# Altium integrated library RPI_POE_ADC_SHIELD.IntLib: 56 symbols
Pins are listed as number, name and electrical type; pins without a type are passive.

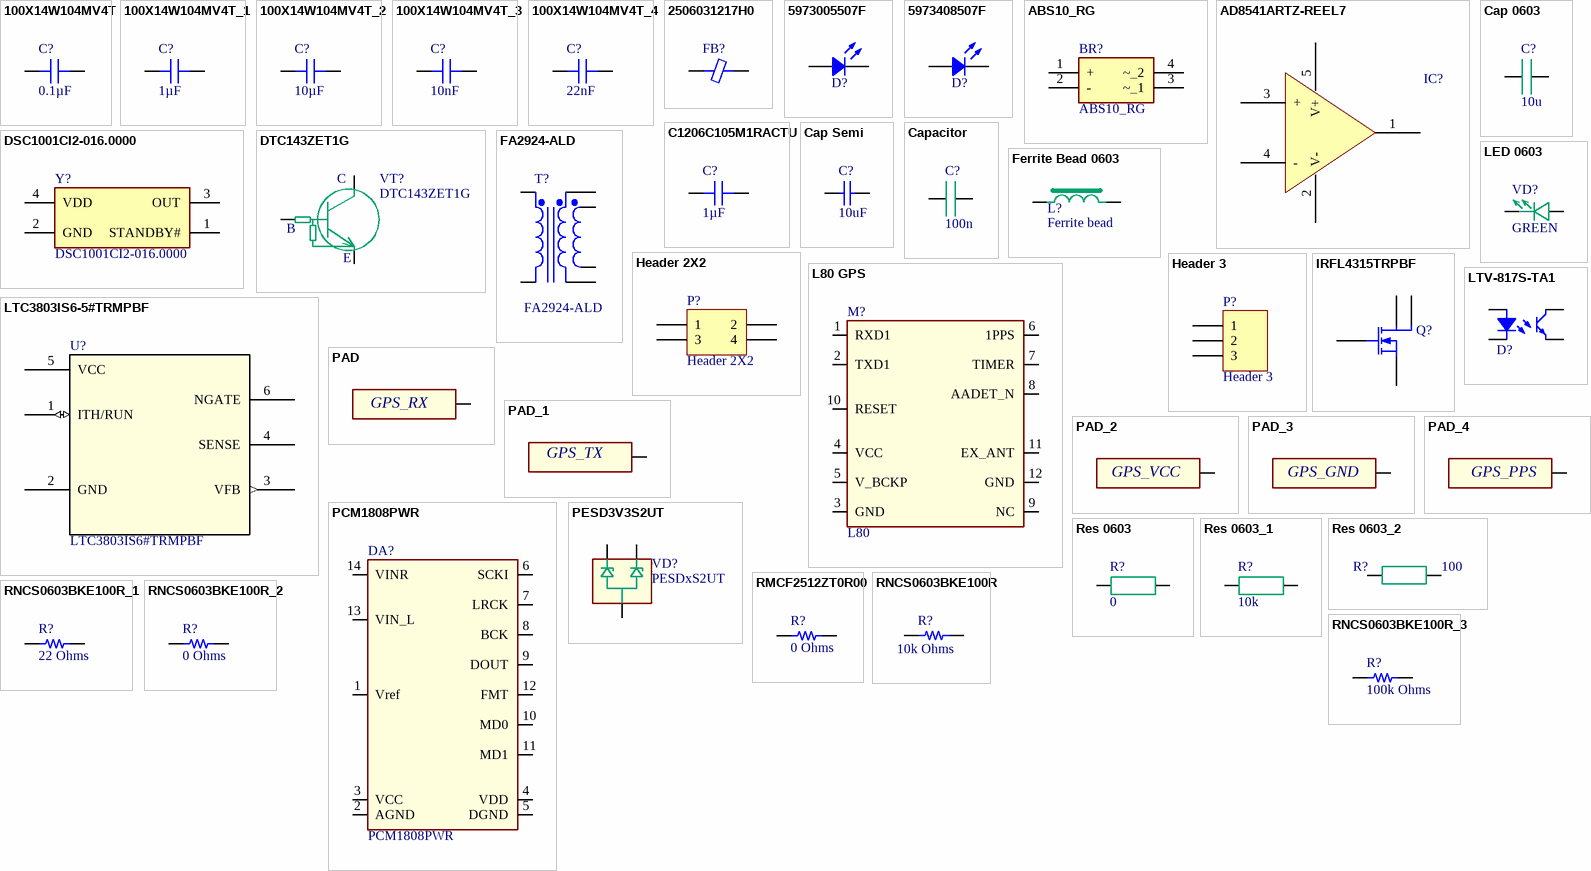
[diagram p0: symbols 100X14W104MV4T to RNCS0603BKE100R_3]

## 100X14W104MV4T
designator C?, comment 0.1µF
CAP CER 0.1UF 10V X7R 0603; Part Number: 100X14W104MV4T; Value: 0.1µF
footprint CAP 0603_1608
pins: 1, 2

## 100X14W104MV4T_1
designator C?, comment 1µF
CAP CER 0.1UF 10V X7R 0603; Part Number: 100X14W104MV4T; Value: 1µF
footprint CAP 0603_1608
pins: 1, 2

## 100X14W104MV4T_2
designator C?, comment 10µF
CAP CER 0.1UF 10V X7R 0603; Part Number: 100X14W104MV4T; Value: 10µF
footprint CAP 0603_1608
pins: 1, 2

## 100X14W104MV4T_3
designator C?, comment 10nF
CAP CER 0.1UF 10V X7R 0603; Part Number: 100X14W104MV4T; Value: 10nF
footprint CAP 0603_1608
pins: 1, 2

## 100X14W104MV4T_4
designator C?, comment 22nF
CAP CER 0.1UF 10V X7R 0603; Part Number: 100X14W104MV4T; Value: 22nF
footprint CAP 0603_1608
pins: 1, 2

## 2506031217H0
designator FB?
FERRITE BEAD 0603 1LN; Part Number: 2506031217H0
footprint FER 0603_1608
pins: 1, 2

## 5973005507F
designator D?
LED RED 0603 SMD; Part Number: 5973005507F
footprint LED 0603_1608 RED
pins: 1, 2

## 5973408507F
designator D?
LED YELLOW 0603 SMD; Part Number: 5973408507F
footprint LED 0603_1608 YELLOW
pins: 1, 2

## ABS10_RG
designator BR?
Bridge Rectifier; Manufacturer_Name: Taiwan Semiconductor; Manufacturer_Part_Number: ABS10 RG; Datasheet Link: http://210.6.198.34/ich_flag/www.taiwansemi.com/products/datasheet/ABS2 SERIES_L15.pdf; Height: 1.6mm; Arrow Part Number: ABS10 RG; Arrow Price/Stock: https://www.arrow.com/en/products/abs10rg/taiwan-semiconductor
footprint SOP400P645X160-4N
pins: 1 +, 2 -, 3 ~_1, 4 ~_2

## AD8541ARTZ-REEL7
designator IC?  (value not drawn)
IC OPAMP GP 1 CIRCUIT SOT23-5; Manufacturer: Analog Devices Inc.; Amplifier Type: General Purpose; Current - Input Bias: 4pA; Current - Output / Channel: 30mA; Current - Supply: 45µA; Gain Bandwidth Product: 1MHz; Number of Circuits: 1; Output Type: Rail-to-Rail; Slew Rate: 0.92V/µs; Voltage - Input Offset: 1mV; Voltage - Supply, Single/Dual (±): 2.7V ~ 5.5V; Part Number: AD8541ARTZ-REEL7; ComponentLink1Description: Datasheet; ComponentLink1URL: https://www.analog.com/media/en/technical-documentation/data-sheets/AD8541_8542_8544.pdf; ComponentLink2Description: DigiKey Link; ComponentLink2URL: http://digikey.com/product-detail/en/analog-devices-inc/AD8541ARTZ-REEL7/AD8541ARTZ-REEL7CT-ND/813416; Device Package: SC-74A, SOT-753; LastUpdated: 08.01.2020 23:39:15; Lifecycle Status: Active; Minimum Order: 1; Mounting Type: Surface Mount; Operating Temperature: -40°C ~ 125°C; Package / Case: SC-74A, SOT-753; Packaging: ReReel; PartId: 9; Part Status: Active; Price: 0.00; Series: -; Supplier 1: DigiKey; Supplier Part Number 1: AD8541ARTZ-REEL7CT-ND; Supplier Device Package: SOT-23-5
footprint ANALOG SOT-23-5 RJ-5
pins: 1 OUT, 2 V-, 3 +, 4 -, 5 V+

## C1206C105M1RACTU
designator C?, comment 1µF
CAP CER 1UF 100V X7R 1206; Part Number: C1206C105M1RACTU; Manufacturer: KEMET; Tolerance: ±20%; Value: 1µF; Applications: Bypass, Decoupling; Capacitance: 1µF; ComponentLink1Description: Datasheet; ComponentLink1URL: https://api.kemet.com/component-edge/download/datasheet/C1206C105M1RACTU.pdf; ComponentLink2Description: DigiKey Link; ComponentLink2URL: http://digikey.com/product-detail/en/kemet/C1206C105M1RACTU/399-11684-1-ND/5119827; Device Package: 1206 (3216 Metric); LastUpdated: 02/09/2020 01:05:39; Lifecycle Status: Active; Minimum Order: 1; Mounting Type: Surface Mount, MLCC; Operating Temperature: -55°C ~ 125°C; Package / Case: 1206 (3216 Metric); Packaging: TapeAndReel; PartId: 20380; Part Status: Active; Price: 0.13; Series: SMD Comm X7R; Size / Dimension: 0.126" L x 0.063" W (3.20mm x 1.60mm); Supplier 1: DigiKey; Supplier Part Number 1: 399-11684-1-ND; Temperature Coefficient: X7R; Thickness (Max): 0.071" (1.80mm); Voltage - Rated: 100V
footprint CAP 1206_3216 - 1.8MM
pins: 1, 2

## Cap 0603
designator C?, comment 10u
Ceramic capacitor, SMD; Manufacturer: Samsung; Manufacturer P/N: CL10B___K_; Tolerance: ±10%; Корпус: 0603; Комментарий: Конденсатор керамический, SMD; ID: Cap 0603; Type: Capacitor; Temperature: -55…+125; HelpURL: pdf/passive/samsung-chip-cap.pdf
footprint CAP 0603
pins: 1, 2

## Cap Semi
designator C?  value 10uF  (hidden comment: Cap Semi)
Capacitor (Semiconductor SIM Model); Published: 8-Jun-2000; LatestRevisionDate: 29-May-2009; LatestRevisionNote: IPC-7351 Footprint Added.; PackageReference: C1206; Publisher: Altium Limited; PackageDescription: Chip Capacitor
footprint C1206 (Chip Capacitor, Body 3.2x1.6mm, IPC High Density)
footprint 0402 (Chip Capacitor, Body 1.0x0.5mm, IPC High Density)
footprint C2512 (Chip Capacitor, Body 2.54x1.27mm, IPC High Density)
footprint 1608[0603] (Chip Capacitor, Body 1.6x0.8mm, IPC High Density)
footprint C1210 (Chip Capacitor, Body 3.2x2.5mm, IPC High Density)
simulation model CAP (Semiconductor Capacitor)
signal-integrity model Cap Semi
pins: 1, 2

## Capacitor
designator C?, comment 100n
Ceramic capacitor, SMD; Manufacturer: Samsung; Manufacturer P/N: CL10B___K_; Tolerance: ±10%; Корпус: 0603; Комментарий: Конденсатор керамический, SMD; ID: Cap 0603; Type: Capacitor; Temperature: -55…+125; HelpURL: pdf/passive/samsung-chip-cap.pdf
footprint CAP 0603
pins: 1, 2

## DSC1001CI2-016.0000
designator Y?
Crystal or Oscillator; Manufacturer_Name: Microchip; Datasheet Link: https://ww1.microchip.com/downloads/en/DeviceDoc/20005529B.pdf; Height: 0.9mm; Manufacturer_Part_Number: DSC1001CI2-016.0000
footprint DSC1001CI20160000
pins: 1 STANDBY#, 2 GND, 3 OUT, 4 VDD

## DTC143ZET1G
designator VT?
Transistor bipolar, NPN, pre-biased; Manufacturer: ON Semiconductor; Voltage: 50V; Current: 0.1A; Корпус: SC-75; Комментарий: Биполярный транзистор, NPN, pre-biased; ID: DTC143ZET1G; Type: NPN; Voltage max: 50V; Manufacturer P/N: DTC143ZET1G; Temperature: -55…+150; Digikey p/n: DTC143ZET1GOSCT-ND
footprint SC-75
pins: 1, 2, 3
text: C; B; E

## FA2924-ALD
designator T?
Transformer; Manufacturer_Name: COILCRAFT; Datasheet Link: https://www.coilcraft.com/pdfs/fa2805.pdf; Height: 12.7mm; Manufacturer_Part_Number: FA2924-ALD; Mouser Part Number: 994-FA2924-ALD; Mouser Price/Stock: https://www.mouser.co.uk/ProductDetail/Coilcraft/FA2924-ALD/?qs=ZYnrCdKdyefew%252BIVULR6AA%3D%3D
footprint FA2924ALD
pins: 1 Pri+, 2 Pri-, 7 Sec+, 8 Sec+, 9 Sec-, 10 Sec-

## Ferrite Bead 0603
designator L?, comment Ferrite bead
Ferrite bead, SMD; Manufacturer: Epcos; ID: Ferrite Bead 0603; Tolerance: 5%; Корпус: 0603; Комментарий: Феррит фильтрующий, SMD; Type: Ferrite Bead; Temperature: -55…+150; HelpURL: pdf/passive/QNFA9129.pdf
footprint BEAD 0603
pins: 1, 2

## Header 2X2
designator P?
Header, 2-Pin, Dual row; LatestRevisionDate: 17-Jul-2002; LatestRevisionNote: Re-released for DXP Platform.; Publisher: Altium Limited
footprint HDR2X2 (Connector; Header; 2x2 Position)
signal-integrity model Connector
pins: 1, 2, 3, 4

## Header 3
designator P?
Header, 3-Pin; LatestRevisionDate: 17-Jul-2002; LatestRevisionNote: Re-released for DXP Platform.; Publisher: Altium Limited
footprint HDR1X3 (Connector; Header; 3 Position)
signal-integrity model Connector
pins: 1, 2, 3

## IRFL4315TRPBF
designator Q?  (value not drawn)
MOSFET (N-Channel); Manufacturer_Name: Infineon; Datasheet Link: https://www.infineon.com/dgdl/irfl4315pbf.pdf?fileId=5546d462533600a4015356280dbc1fbe; Height: 1.8mm; Manufacturer_Part_Number: IRFL4315TRPBF; Mouser Part Number: 942-IRFL4315TRPBF; Mouser Price/Stock: https://www.mouser.co.uk/ProductDetail/Infineon-IR/IRFL4315TRPBF/?qs=9%252BKlkBgLFf2fNmu5vkaiHg%3D%3D; Arrow Part Number: IRFL4315TRPBF; Arrow Price/Stock: https://www.arrow.com/en/products/irfl4315trpbf/infineon-technologies-ag
footprint SOT230P700X180-4N
pins: 1 G, 2 D, 3 S, 4 D_2

## L80 GPS
designator M?, comment L80
GPS module; Manufacturer: Quectel; Manufacturer P/N: L80-M39; ID: L80 GPS; Current: 0.025A; Voltage IN max: 4.3V; Корпус: 12-SMD Module; Комментарий: GPS модуль; Voltage IN min: 3V; Type: GPS module; Temperature: -40…+85
footprint L80 GPS
pins: 1 RXD1, 2 TXD1, 3 GND, 4 VCC, 5 V_BCKP, 6 1PPS, 7 TIMER, 8 AADET_N, 9 NC, 10 RESET, 11 EX_ANT, 12 GND

## LED 0603
designator VD?, comment GREEN
LED, SMD; Корпус: 0603; Комментарий: Светодиод, SMD; ID: LED 0603
footprint LED 0603
footprint LED 0603 reverse
pins: 1, 2

## LTC3803IS6-5#TRMPBF
designator U?, comment LTC3803IS6#TRMPBF
No Description Available; Manufacturer_Part_Number: LTC3803IS6-5#TRMPBF; Vendor: Linear Technology; Built_By: EMA_UL_Team; SourceLibrary: LinearTech_2016-05-13_6; Copyright: Copyright (C) 2018 Accelerated Designs. All rights reserved; RefDes: RefDes; Type: DEV
footprint SOT95P280X100-6N
pins: 1 ITH/RUN (io), 2 GND (power), 3 VFB (out), 4 SENSE, 5 VCC (power), 6 NGATE

## LTV-817S-TA1
designator D?  (value not drawn)
OPTOISOLATR 5KV TRANSISTOR 4-SMD; Manufacturer: Lite-On Inc.; Current - DC Forward (If) (Max): 50mA; Current Transfer Ratio (Max): 600% @ 5mA; Current Transfer Ratio (Min): 50% @ 5mA; Input Type: DC; Number of Channels: 1; Rise / Fall Time (Typ): 4µs, 3µs; Vce Saturation (Max): 200mV; Voltage - Forward (Vf) (Typ): 1.2V; Voltage - Isolation: 5000Vrms; Voltage - Output (Max): 35V; Part Number: LTV-817S-TA1; ComponentLink1Description: Datasheet; ComponentLink1URL: http://optoelectronics.liteon.com/upload/download/DS-70-96-0016/LTV-8X7%20series%20201610%20.pdf; ComponentLink2Description: DigiKey Link; ComponentLink2URL: http://digikey.com/product-detail/en/lite-on-inc/LTV-817S-TA1/160-1893-1-ND/3306757; Current - Output / Channel: 50mA; Device Package: 4-SMD, Gull Wing; LastUpdated: 12/01/2020 21:58:48; Lifecycle Status: Active; Minimum Order: 1; Mounting Type: Surface Mount; Operating Temperature: -30°C ~ 110°C; Output Type: Transistor; Package / Case: 4-SMD, Gull Wing; Packaging: TapeAndReel; Part Status: Active; Price: 0.12; Series: -; Supplier 1: DigiKey; Supplier Part Number 1: 160-1893-1-ND; Supplier Device Package: 4-SMD
footprint LITEON LTV-817
pins: 1, 2, 3, 4

## PAD
designator X?, comment GPS_RX  (no BOM)
Soldering pad; Manufacturer: KHADB; Комментарий: Контактная площадка; Name: GPS_RX; ID: PAD; Pins: 1
footprint PAD 3x4mm
footprint PAD 1x2mm
pins: 1

## PAD_1
designator X?, comment GPS_TX  (no BOM)
Soldering pad; Manufacturer: KHADB; Комментарий: Контактная площадка; Name: GPS_TX; ID: PAD; Pins: 1
footprint PAD 3x4mm
footprint PAD 1x2mm
pins: 1

## PAD_2
designator X?, comment GPS_VCC  (no BOM)
Soldering pad; Manufacturer: KHADB; Комментарий: Контактная площадка; Name: GPS_VCC; ID: PAD; Pins: 1
footprint PAD 3x4mm
footprint PAD 1x2mm
pins: 1

## PAD_3
designator X?, comment GPS_GND  (no BOM)
Soldering pad; Manufacturer: KHADB; Комментарий: Контактная площадка; Name: GPS_GND; ID: PAD; Pins: 1
footprint PAD 3x4mm
footprint PAD 1x2mm
pins: 1

## PAD_4
designator X?, comment GPS_PPS  (no BOM)
Soldering pad; Manufacturer: KHADB; Комментарий: Контактная площадка; Name: GPS_PPS; ID: PAD; Pins: 1
footprint PAD 3x4mm
footprint PAD 1x2mm
pins: 1

## PCM1808PWR
designator DA?
Audio ADC, 24 bit, 192 kHz; Manufacturer: Texas Instruments; Vcc min: 3.3V; Vcc max: 5V; Корпус: TSSOP 14; Комментарий: АЦП, аудио назначения, 24 bit, 192 kHz; ID: PCM1808PWR; Type: ADC, audio; Temperature: -40…+85; Manufacturer P/N: PCM1808PWR; Digikey p/n: 296-26307-1-ND
footprint TSSOP 14
pins: 1 Vref, 2 AGND, 3 VCC, 4 VDD, 5 DGND, 6 SCKI, 7 LRCK, 8 BCK, 9 DOUT, 10 MD0, 11 MD1, 12 FMT, 13 VIN_L, 14 VINR

## PESD3V3S2UT
designator VD?, comment PESDxS2UT
TVS diode, SMD; Manufacturer: NXP; Manufacturer P/N: PESD3V3S2UT,215; ID: PESD3V3S2UT; Type: Supressor; Voltage: 3.3V; Корпус: SOT-23; Комментарий: Супрессор, SMD; Voltage max: 3.3V; Temperature: -65…+150; HelpURL: pdf/discrete/PESDXS2UT_SERIES.pdf; Digikey p/n: 1727-3831-1-ND
footprint sot-23
pins: 1, 2, 3

## Res 0603
designator R?, comment 0
Chip resistor, SMD; Manufacturer: Samsung; Tolerance: 5%; Power: 0.1W; Max Voltage: 50V; Корпус: 0603; Комментарий: Резистор постоянный, SMD; ID: Res 0603; Type: Resistor; Temperature: -55…+155; HelpURL: pdf/passive/Samsung-RC3216J101CS.pdf; ComponentLink1URL: pdf/passive/Samsung-RC3216J101CS.pdf; ComponentLink1Description: Samsung Datasheet
footprint RES 0603
pins: 1, 2

## Res 0603_1
designator R?, comment 10k
Chip resistor, SMD; Manufacturer: Samsung; Tolerance: 5%; Power: 0.1W; Max Voltage: 50V; Корпус: 0603; Комментарий: Резистор постоянный, SMD; ID: Res 0603; Type: Resistor; Temperature: -55…+155; HelpURL: pdf/passive/Samsung-RC3216J101CS.pdf; ComponentLink1URL: pdf/passive/Samsung-RC3216J101CS.pdf; ComponentLink1Description: Samsung Datasheet
footprint RES 0603
pins: 1, 2

## Res 0603_2
designator R?, comment 100
Chip resistor, SMD; Manufacturer: Samsung; Tolerance: 5%; Power: 0.1W; Max Voltage: 50V; Корпус: 0603; Комментарий: Резистор постоянный, SMD; ID: Res 0603; Type: Resistor; Temperature: -55…+155; HelpURL: pdf/passive/Samsung-RC3216J101CS.pdf; ComponentLink1URL: pdf/passive/Samsung-RC3216J101CS.pdf; ComponentLink1Description: Samsung Datasheet
footprint RES 0603
pins: 1, 2

## RMCF2512ZT0R00
designator R?, comment 0 Ohms
RES 0 OHM JUMPER 1W 2512; Part Number: RMCF2512ZT0R00; Manufacturer: Stackpole Electronics Inc; ComponentLink1Description: Datasheet; ComponentLink1URL: https://www.seielect.com/catalog/sei-rmcf_rmcp.pdf; ComponentLink2Description: DigiKey Link; ComponentLink2URL: http://digikey.com/product-detail/en/stackpole-electronics-inc/RMCF2512ZT0R00/RMCF2512ZT0R00CT-ND/1942639; Composition: Thick Film; Device Package: 2512 (6432 Metric); Features: Automotive AEC-Q200; Height - Seated (Max): 0.028" (0.70mm); LastUpdated: 02/09/2020 01:27:06; Lifecycle Status: Active; Minimum Order: 1; Number of Terminations: 2; Operating Temperature: -55°C ~ 155°C; Package / Case: 2512 (6432 Metric); Packaging: TapeAndReel; Part Status: Active; Power (Watts): 1W; Price: 0.03; Ratings: AEC-Q200; Resistance: 0 Ohms; Series: RMCF; Size / Dimension: 0.248" L x 0.126" W (6.30mm x 3.20mm); Supplier 1: DigiKey; Supplier Part Number 1: RMCF2512ZT0R00CT-ND; Supplier Device Package: 2512; Tolerance: Jumper; Value: 0 Ohms
footprint RES 2512_6432
pins: 1, 2

## RNCS0603BKE100R
designator R?, comment 10k Ohms
RES 100 OHM 0.1% 1/16W 0603; Part Number: RNCS0603BKE100R; Value: 10k Ohms
footprint RES 0603_1608
pins: 1, 2

## RNCS0603BKE100R_1
designator R?, comment 22 Ohms
RES 100 OHM 0.1% 1/16W 0603; Part Number: RNCS0603BKE100R; Value: 22 Ohms
footprint RES 0603_1608
pins: 1, 2

## RNCS0603BKE100R_2
designator R?, comment 0 Ohms
RES 100 OHM 0.1% 1/16W 0603; Part Number: RNCS0603BKE100R; Value: 0 Ohms
footprint RES 0603_1608
pins: 1, 2

## RNCS0603BKE100R_3
designator R?, comment 100k Ohms
RES 100 OHM 0.1% 1/16W 0603; Part Number: RNCS0603BKE100R; Value: 100k Ohms
footprint RES 0603_1608
pins: 1, 2

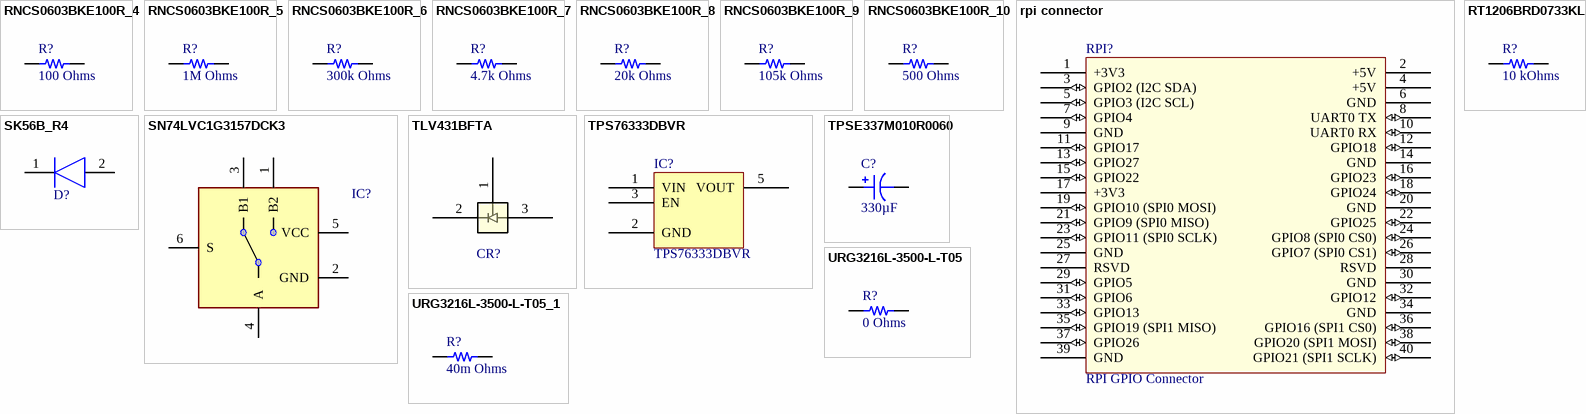
[diagram p1: symbols RNCS0603BKE100R_4 to URG3216L-3500-L-T05_1]

## RNCS0603BKE100R_4
designator R?, comment 100 Ohms
RES 100 OHM 0.1% 1/16W 0603; Part Number: RNCS0603BKE100R; Value: 100 Ohms
footprint RES 0603_1608
pins: 1, 2

## RNCS0603BKE100R_5
designator R?, comment 1M Ohms
RES 100 OHM 0.1% 1/16W 0603; Part Number: RNCS0603BKE100R; Value: 1M Ohms
footprint RES 0603_1608
pins: 1, 2

## RNCS0603BKE100R_6
designator R?, comment 300k Ohms
RES 100 OHM 0.1% 1/16W 0603; Part Number: RNCS0603BKE100R; Value: 300k Ohms
footprint RES 0603_1608
pins: 1, 2

## RNCS0603BKE100R_7
designator R?, comment 4.7k Ohms
RES 100 OHM 0.1% 1/16W 0603; Part Number: RNCS0603BKE100R; Value: 4.7k Ohms
footprint RES 0603_1608
pins: 1, 2

## RNCS0603BKE100R_8
designator R?, comment 20k Ohms
RES 100 OHM 0.1% 1/16W 0603; Part Number: RNCS0603BKE100R; Value: 20k Ohms
footprint RES 0603_1608
pins: 1, 2

## RNCS0603BKE100R_9
designator R?, comment 105k Ohms
RES 100 OHM 0.1% 1/16W 0603; Part Number: RNCS0603BKE100R; Value: 105k Ohms
footprint RES 0603_1608
pins: 1, 2

## RNCS0603BKE100R_10
designator R?, comment 500 Ohms
RES 100 OHM 0.1% 1/16W 0603; Part Number: RNCS0603BKE100R; Value: 500 Ohms
footprint RES 0603_1608
pins: 1, 2

## rpi connector
designator RPI?, comment RPI GPIO Connector
GPIO Header for Raspberry Pi A+/B+/Pi 2/Pi 3 - 2x20; Manufacturer: SparkFun Electronics; Manufacturer Part Number: PRT-14017; Nils Minor: author; nilsminor@web.de: mail; RoHS: RoHS Compliant; Category: Development Boards, Kits, Programmers; Stock 1: 150; Pricing 1: 1=1.84 (EUR); Part Status: Active; Accessory Type: Connector; For Use With/Related Products: Raspberry Pi; ComponentLink1URL: https://cdn.sparkfun.com/datasheets/Dev/RaspberryPi/12313.pdf; ComponentLink1Description: https://cdn.sparkfun.com/datasheets/Dev/RaspberryPi/12313.pdf; Supplier 1: Digi-Key; Supplier Part Number 1: 1568-1462-ND
footprint rpi
pins: 1 +3V3 (power), 2 +5V (power), 3 GPIO2 (I2C SDA) (io), 4 +5V (power), 5 GPIO3 (I2C SCL) (io), 6 GND (power), 7 GPIO4 (io), 8 UART0 TX (io), 9 GND (power), 10 UART0 RX (io), 11 GPIO17 (io), 12 GPIO18 (io), 13 GPIO27 (io), 14 GND (power), 15 GPIO22 (io), 16 GPIO23 (io), 17 +3V3 (power), 18 GPIO24 (io), 19 GPIO10 (SPI0 MOSI) (io), 20 GND (power), 21 GPIO9 (SPI0 MISO) (io), 22 GPIO25 (io), 23 GPIO11 (SPI0 SCLK) (io), 24 GPIO8 (SPI0 CS0) (io), 25 GND (power), 26 GPIO7 (SPI0 CS1) (io), 27 RSVD, 28 RSVD, 29 GPIO5 (io), 30 GND (power), 31 GPIO6 (io), 32 GPIO12 (io), 33 GPIO13 (io), 34 GND, 35 GPIO19 (SPI1 MISO) (io), 36 GPIO16 (SPI1 CS0) (io), 37 GPIO26 (io), 38 GPIO20 (SPI1 MOSI) (io), 39 GND (power), 40 GPIO21 (SPI1 SCLK) (io)

## RT1206BRD0733KL
designator R?, comment 10 kOhms
RES SMD 33K OHM 0.1% 1/4W 1206; Part Number: RT1206BRD0733KL; Manufacturer: Yageo; Power (Watts): 0.25W, 1/4W; Temperature Coefficient: ±25ppm/°C; ComponentLink1Description: Datasheet; ComponentLink1URL: https://www.yageo.com/upload/media/product/productsearch/datasheet/rchip/PYu-RT_1-to-0.01_RoHS_L_11.pdf; ComponentLink2Description: DigiKey Link; ComponentLink2URL: http://digikey.com/product-detail/en/yageo/RT1206BRD0733KL/YAG2038CT-ND/5139486; Composition: Thin Film; Device Package: 1206 (3216 Metric); Height - Seated (Max): 0.026" (0.65mm); LastUpdated: 02/09/2020 01:13:11; Lifecycle Status: Active; Minimum Order: 1; Number of Terminations: 2; Operating Temperature: -55°C ~ 155°C; Package / Case: 1206 (3216 Metric); Packaging: TapeAndReel; PartId: 26862; Part Status: Active; Price: 0.10; Resistance: 10 kOhms; Series: RT; Size / Dimension: 0.122" L x 0.063" W (3.10mm x 1.60mm); Supplier 1: DigiKey; Supplier Part Number 1: YAG2038CT-ND; Supplier Device Package: 1206; Tolerance: ±0.1%; Value: 10 kOhms
footprint RES 1206_3216
pins: 1, 2

## SK56B_R4
designator D?  (value not drawn)
Diode; Manufacturer_Name: Taiwan Semiconductor; Manufacturer_Part_Number: SK56B R4; Datasheet Link: http://uk.rs-online.com/web/p/products/7435961; Height: 2.61mm; Mouser Part Number: 821-SK56BR4; Mouser Price/Stock: https://www.mouser.com/Search/Refine.aspx?Keyword=821-SK56BR4; Arrow Part Number: SK56B R4; Arrow Price/Stock: https://www.arrow.com/en/products/sk56br4/taiwan-semiconductor
footprint DIONM5236X261N
pins: 1 K, 2 A

## SN74LVC1G3157DCK3
designator IC?  (value not drawn)
Integrated Circuit; Manufacturer_Name: Texas Instruments; Datasheet Link: http://www.ti.com/general/docs/suppproductinfo.tsp?distId=26&gotoUrl=http%3A%2F%2Fwww.ti.com%2Flit%2Fgpn%2FSN74LVC1G3157; Height: 1.1mm; Manufacturer_Part_Number: SN74LVC1G3157DCK3; Mouser Part Number: 595-74LVC1G3157DCK3; Mouser Price/Stock: https://www.mouser.co.uk/ProductDetail/Texas-Instruments/SN74LVC1G3157DCK3?qs=gHXEOK8GIg%2FmbZPnkwnSeQ%3D%3D; Arrow Part Number: SN74LVC1G3157DCK3; Arrow Price/Stock: https://www.arrow.com/en/products/sn74lvc1g3157dck3/texas-instruments
footprint SOT65P210X110-6N
pins: 1 B2, 2 GND, 3 B1, 4 A, 5 VCC, 6 S

## TLV431BFTA
designator CR?  (value not drawn)
No Description Available; Vendor: Diodes Inc; Built_By: EMA_Cory; SourceLibrary: Add_to_database_2021-02-04; Type: DEV; Datasheet: https://www.diodes.com/assets/Datasheets/TLV431.pdf; Manufacturer_Part_Number: TLV431BFTA; Copyright: Copyright (C) 2018 Accelerated Designs. All rights reserved; RefDes: RefDes
footprint SOT23_DIO
pins: 1, 2, 3

## TPS76333DBVR
designator IC?
IC REG LINEAR 3.3V 150MA SOT23-5; Part Number: TPS76333DBVR
footprint TI SOT-23-5 DBV
pins: 1 VIN "Desc1", 2 GND "Desc1", 3 EN "Desc1", 5 VOUT "Desc1"

## TPSE337M010R0060
designator C?, comment 330µF
CAP TANT 330UF 20% 10V 2917; Part Number: TPSE337M010R0060; Manufacturer: AVX Corporation; Manufacturer Size Code: E; ESR (Equivalent Series Resistance): 60mOhm; Type: Molded; Value: 330µF; Capacitance: 330µF; ComponentLink1Description: Datasheet; ComponentLink1URL: http://datasheets.avx.com/TPS.pdf; ComponentLink2Description: DigiKey Link; ComponentLink2URL: http://digikey.com/product-detail/en/avx-corporation/TPSE337M010R0060/478-4141-1-ND/1164477; Device Package: 2917 (7343 Metric); Features: General Purpose; Height - Seated (Max): 0.169" (4.30mm); LastUpdated: 02/09/2020 01:16:18; Lifecycle Status: Active; Minimum Order: 1; Mounting Type: Surface Mount; Operating Temperature: -55°C ~ 125°C; Package / Case: 2917 (7343 Metric); Packaging: TapeAndReel; PartId: 1652; Part Status: Active; Price: 0.94; Series: TPS; Size / Dimension: 0.287" L x 0.169" W (7.30mm x 4.30mm); Supplier 1: DigiKey; Supplier Part Number 1: 478-4141-1-ND; Tolerance: ±20%; Voltage - Rated: 10V
footprint CAP POL 2917_7343
pins: 1, 2

## URG3216L-3500-L-T05
designator R?, comment 0 Ohms
1206 SIZE, 0.25W, 350 OHM, 0.01%; Part Number: URG3216L-3500-L-T05; Manufacturer: Susumu; Power (Watts): 0.25W, 1/4W; Resistance: 350 Ohms; Temperature Coefficient: ±2ppm/°C; ComponentLink1Description: Datasheet; ComponentLink1URL: https://www.susumu.co.jp/common/pdf/n_catalog_partition03_en.pdf; ComponentLink2Description: DigiKey Link; ComponentLink2URL: http://digikey.com/product-detail/en/susumu/URG3216L-3500-L-T05/408-2057-1-ND/9919091; Composition: Thin Film; Device Package: 1206 (3216 Metric); Features: Anti-Sulfur, Automotive AEC-Q200; Height - Seated (Max): 0.022" (0.55mm); LastUpdated: 02/09/2020 01:12:47; Lifecycle Status: Active; Minimum Order: 1; Number of Terminations: 2; Operating Temperature: -55°C ~ 155°C; Package / Case: 1206 (3216 Metric); Packaging: TapeAndReel; PartId: 36368; Part Status: Active; Price: 4.95; Ratings: AEC-Q200; Series: URG; Size / Dimension: 0.126" L x 0.063" W (3.20mm x 1.60mm); Supplier 1: DigiKey; Supplier Part Number 1: 408-2057-1-ND; Supplier Device Package: 1206; Tolerance: ±0.01%; Value: 0 Ohms
footprint RES 1206_3216
pins: 1, 2

## URG3216L-3500-L-T05_1
designator R?, comment 40m Ohms
1206 SIZE, 0.25W, 350 OHM, 0.01%; Part Number: URG3216L-3500-L-T05; Manufacturer: Susumu; Power (Watts): 0.25W, 1/4W; Resistance: 350 Ohms; Temperature Coefficient: ±2ppm/°C; ComponentLink1Description: Datasheet; ComponentLink1URL: https://www.susumu.co.jp/common/pdf/n_catalog_partition03_en.pdf; ComponentLink2Description: DigiKey Link; ComponentLink2URL: http://digikey.com/product-detail/en/susumu/URG3216L-3500-L-T05/408-2057-1-ND/9919091; Composition: Thin Film; Device Package: 1206 (3216 Metric); Features: Anti-Sulfur, Automotive AEC-Q200; Height - Seated (Max): 0.022" (0.55mm); LastUpdated: 02/09/2020 01:12:47; Lifecycle Status: Active; Minimum Order: 1; Number of Terminations: 2; Operating Temperature: -55°C ~ 155°C; Package / Case: 1206 (3216 Metric); Packaging: TapeAndReel; PartId: 36368; Part Status: Active; Price: 4.95; Ratings: AEC-Q200; Series: URG; Size / Dimension: 0.126" L x 0.063" W (3.20mm x 1.60mm); Supplier 1: DigiKey; Supplier Part Number 1: 408-2057-1-ND; Supplier Device Package: 1206; Tolerance: ±0.01%; Value: 40m Ohms
footprint RES 1206_3216
pins: 1, 2